# Altium footprint library PcbLib1.PcbLib: 18 footprints (part 1 of 2)
Each footprint in its own frame and in the unit in brackets; x right, y up, seen from the top. Pads: shape width x height; smd on the part's side, far side on the other; paste and mask are expansions set on the pad; w line width, h text height; cw(c..) or ccw(c..) is an arc to the next point about the centre after c.
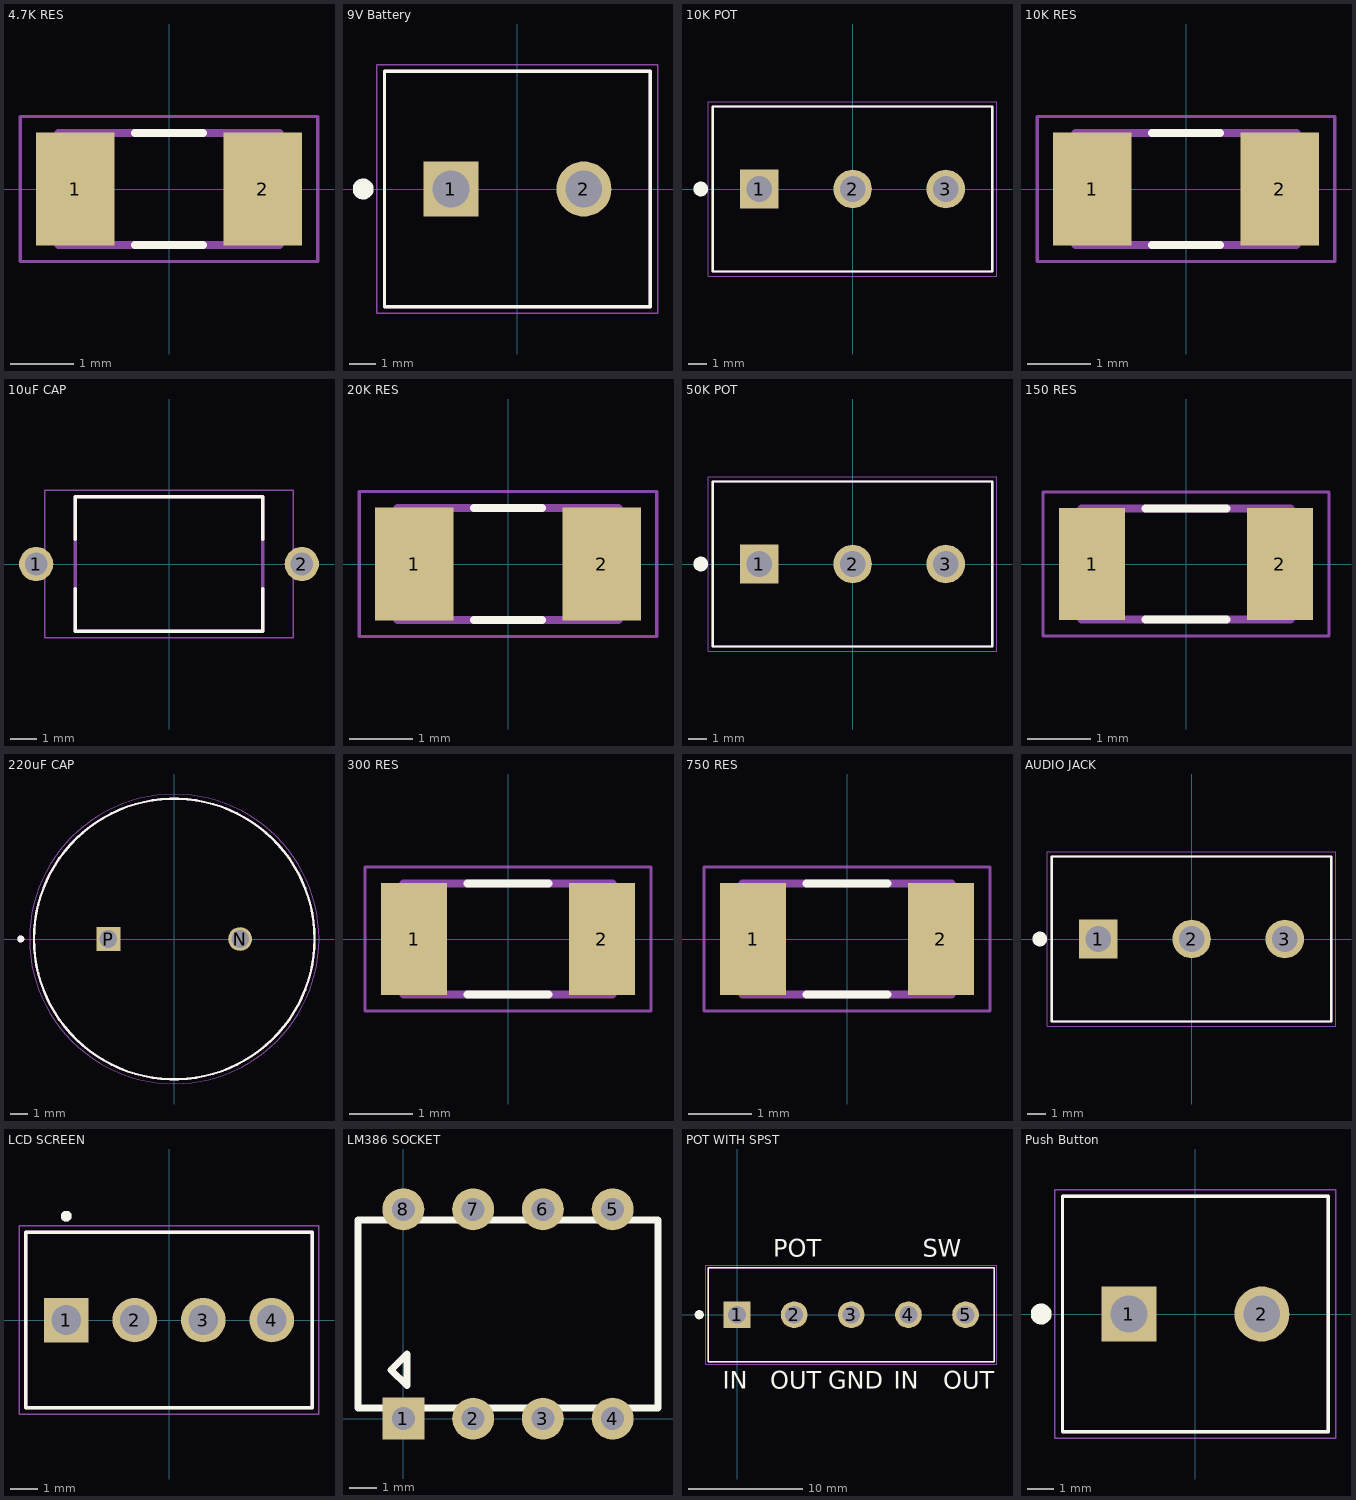
[diagram p0: the footprints below, top view; thin cyan lines are the x and y axes]

## 4.7K RES [mm]
pads (2):
  rect 1.23x1.77 smd: 1(-1.466,0) 2(1.466,0)
Top Overlay:
  lines w0.127: -0.53,-0.88 0.53,-0.88 ; -0.53,0.88 0.53,0.88
Mechanical 13:
  lines w0.127: -1.73,-0.88 1.73,-0.88 1.73,0.88 -1.73,0.88 -1.73,-0.88
Mechanical 15:
  lines w0.05: -2.331,-1.135 2.331,-1.135 2.331,1.135 -2.331,1.135 -2.331,-1.135
3D body "RMCF1206FT4K70.STEP": height 0.7, standoff 0, extent -1.6,-0.8 1.6,0.8

## 9V Battery [mm]
pads (2):
  rect 2.1x2.1 hole 1.4: 1(-2.54,0)
  round 2.1 hole 1.4: 2(2.54,0)
Top Overlay:
  circle w0.4: c-5.89,0 r0.2
  lines w0.127: -5.08,-4.5 5.08,-4.5 5.08,4.5 -5.08,4.5 -5.08,-4.5
Mechanical 13:
  circle w0.4: c-2.54,0 r0.2
  lines w0.127: -5.08,-4.5 5.08,-4.5 5.08,4.5 -5.08,4.5 -5.08,-4.5
Mechanical 15:
  lines w0.05: -5.37,-4.75 -5.37,4.75 5.37,4.75 5.37,-4.75 -5.37,-4.75
3D body "282841-2--3DModel-STEP-1.STEP": height 15.2, standoff -3.5, extent -5.334,-4.516 5.326,4.484

## 10K POT [mm]
pads (3):
  rect 2.1x2.1 hole 1.4: 1(-5.08,0)
  round 2.1 hole 1.4: 2(0,0) 3(5.08,0)
Top Overlay:
  circle w0.4: c-8.28,0 r0.2
  lines w0.127: -7.62,-4.5 7.62,-4.5 7.62,4.5 -7.62,4.5 -7.62,-4.5
Mechanical 13:
  lines w0.127: -7.62,-4.5 7.62,-4.5 7.62,4.5 -7.62,4.5 -7.62,-4.5
Mechanical 15:
  lines w0.05: -7.87,-4.75 -7.87,4.75 7.87,4.75 7.87,-4.75 -7.87,-4.75
3D body "282841-3--3DModel-STEP-1.STEP": height 15.2, standoff -3.5, extent -7.874,-4.572 7.866,4.428

## 10K RES [mm]
pads (2):
  rect 1.23x1.77 smd: 1(-1.466,0) 2(1.466,0)
Top Overlay:
  lines w0.127: -0.53,-0.88 0.53,-0.88 ; -0.53,0.88 0.53,0.88
Mechanical 13:
  lines w0.127: -1.73,-0.88 1.73,-0.88 1.73,0.88 -1.73,0.88 -1.73,-0.88
Mechanical 15:
  lines w0.05: -2.331,-1.135 2.331,-1.135 2.331,1.135 -2.331,1.135 -2.331,-1.135
3D body "step_temp.STEP": height 0.7, standoff 0, extent -1.6,-0.8 1.6,0.8

## 10uF CAP [mm]
pads (2):
  round 1.28 hole 0.85: 1(-4.953,0) 2(4.953,0)
Top Overlay:
  lines w0.127: -3.5,-0.93 -3.5,-2.5 3.5,-2.5 3.5,-0.93 ; -3.5,0.93 -3.5,2.5 3.5,2.5 3.5,0.93
Mechanical 13:
  lines w0.127: -3.5,-2.5 3.5,-2.5 3.5,2.5 -3.5,2.5 -3.5,-2.5
Mechanical 15:
  lines w0.05: -4.64,-2.75 4.64,-2.75 4.64,2.75 -4.64,2.75 -4.64,-2.75
3D body "DE2E3SA102MN3AY02F.STEP": height 10, standoff -25, extent -5.333,-2 5.333,2

## 20K RES [mm]
pads (2):
  rect 1.23x1.77 smd: 1(-1.466,0) 2(1.466,0)
Top Overlay:
  lines w0.127: -0.53,-0.88 0.53,-0.88 ; -0.53,0.88 0.53,0.88
Mechanical 13:
  lines w0.127: -1.73,-0.88 1.73,-0.88 1.73,0.88 -1.73,0.88 -1.73,-0.88
Mechanical 15:
  lines w0.05: -2.331,-1.135 2.331,-1.135 2.331,1.135 -2.331,1.135 -2.331,-1.135
3D body "RMCF1206FT10K0.STEP": height 0.7, standoff 0, extent -1.6,-0.8 1.6,0.8

## 50K POT [mm]
pads (3):
  rect 2.1x2.1 hole 1.4: 1(-5.08,0)
  round 2.1 hole 1.4: 2(0,0) 3(5.08,0)
Top Overlay:
  circle w0.4: c-8.28,0 r0.2
  lines w0.127: -7.62,-4.5 -7.62,4.5 7.62,4.5 7.62,-4.5 -7.62,-4.5
Mechanical 13:
  lines w0.127: -7.62,-4.5 -7.62,4.5 7.62,4.5 7.62,-4.5 -7.62,-4.5
Mechanical 15:
  lines w0.05: -7.87,-4.75 7.87,-4.75 7.87,4.75 -7.87,4.75 -7.87,-4.75
3D body "282841-3--3DModel-STEP-1.STEP": height 15.2, standoff -3.5, extent -7.874,-4.445 7.866,4.555

## 150 RES [mm]
pads (2):
  rect 1.05x1.77 smd: 1(-1.485,0) 2(1.485,0)
Top Overlay:
  lines w0.127: -0.64,-0.88 0.64,-0.88 ; -0.64,0.88 0.64,0.88
Mechanical 13:
  lines w0.127: -1.65,-0.88 -1.65,0.88 1.65,0.88 1.65,-0.88 -1.65,-0.88
Mechanical 15:
  lines w0.05: -2.26,-1.135 -2.26,1.135 2.26,1.135 2.26,-1.135 -2.26,-1.135
3D body "CRCW1206300RJNEA.STEP": height 0.6, standoff 0, extent -1.6,-0.8 1.6,0.8

## 220uF CAP [mm]
pads (2):
  round 1.35 hole 1: N(3.75,0)
  rect 1.35x1.35 hole 1: P(-3.75,0)
Top Overlay:
  circle w0.2: c-8.75,0 r0.1
  circle w0.127: c0,0 r8
Mechanical 13:
  circle w0.2: c-8.75,0 r0.1
  circle w0.127: c0,0 r8
Mechanical 15:
  circle w0.05: c0,0 r8.25
3D body "step_temp.STEP": height 27, standoff -20, extent -8,-8 8,8

## 300 RES [mm]
pads (2):
  rect 1.05x1.77 smd: 1(-1.485,0) 2(1.485,0)
Top Overlay:
  lines w0.127: -0.64,-0.88 0.64,-0.88 ; -0.64,0.88 0.64,0.88
Mechanical 13:
  lines w0.127: -1.65,-0.88 -1.65,0.88 1.65,0.88 1.65,-0.88 -1.65,-0.88
Mechanical 15:
  lines w0.05: -2.26,-1.135 -2.26,1.135 2.26,1.135 2.26,-1.135 -2.26,-1.135
3D body "CRCW1206300RJNEA.STEP": height 0.6, standoff 0, extent -1.6,-0.8 1.6,0.8

## 750 RES [mm]
pads (2):
  rect 1.05x1.77 smd: 1(-1.485,0) 2(1.485,0)
Top Overlay:
  lines w0.127: -0.64,-0.88 0.64,-0.88 ; -0.64,0.88 0.64,0.88
Mechanical 13:
  lines w0.127: -1.65,-0.88 1.65,-0.88 1.65,0.88 -1.65,0.88 -1.65,-0.88
Mechanical 15:
  lines w0.05: -2.26,-1.135 2.26,-1.135 2.26,1.135 -2.26,1.135 -2.26,-1.135
3D body "CRCW1206750RFKEA.STEP": height 0.6, standoff 0, extent -1.6,-0.8 1.6,0.8

## AUDIO JACK [mm]
pads (3):
  rect 2.1x2.1 hole 1.4: 1(-5.08,0)
  round 2.1 hole 1.4: 2(0,0) 3(5.08,0)
Top Overlay:
  circle w0.4: c-8.28,0 r0.2
  lines w0.127: -7.62,-4.5 -7.62,4.5 7.62,4.5 7.62,-4.5 -7.62,-4.5
Mechanical 13:
  lines w0.127: -7.62,-4.5 -7.62,4.5 7.62,4.5 7.62,-4.5 -7.62,-4.5
Mechanical 15:
  lines w0.05: -7.87,-4.75 7.87,-4.75 7.87,4.75 -7.87,4.75 -7.87,-4.75
3D body "282841-3--3DModel-STEP-1.STEP": height 15.2, standoff -3.5, extent -7.874,-4.445 7.866,4.555

## LCD SCREEN [mm]
pads (4):
  rect 1.65x1.65 hole 1.1: 1(-3.81,0)
  round 1.65 hole 1.1: 2(-1.27,0) 3(1.27,0) 4(3.81,0)
Top Overlay:
  circle w0.2: c-3.81,3.85 r0.1
  lines w0.127: -5.31,-3.25 -5.31,3.25 5.31,3.25 5.31,-3.25 -5.31,-3.25
Mechanical 13:
  circle w0.2: c-3.81,3.85 r0.1
  lines w0.127: -5.31,-3.25 -5.31,3.25 5.31,3.25 5.31,-3.25 -5.31,-3.25
Mechanical 15:
  lines w0.05: -5.56,-3.5 -5.56,3.5 5.56,3.5 5.56,-3.5 -5.56,-3.5
3D body "1546215-4--3DModel-STEP-1.STEP": height 10, standoff -3.4, extent -5.31,-3.25 5.31,3.25

## LM386 SOCKET [mil] "8 pin socket for LM386"
pads (8):
  rect 60x60 hole 33.07 mask+4: 1(0,0)
  round 60 hole 33.07 mask+4: 2(100,0) 3(200,0) 4(300,0) 5(300,300) 6(200,300) 7(100,300) 8(0,300)
Top Overlay:
  lines w10: -65,15 365,15 365,285 -65,285 -65,15 ; -17.5,70 5,92.5 5,47.5 -17.5,70
3D body "210-xx-308-41-001000.STEP": height 109.84, standoff 0, extent -48.82,-43.82 348.82,353.82

## POT WITH SPST [mm]
pads (5):
  rect 2.34x2.34 hole 1.56: 1(0,0)
  round 2.34 hole 1.56: 2(5,0) 3(10,0) 4(15,0) 5(20,0)
Top Overlay:
  circle w0.4: c-3.302,0 r0.2
  lines w0.127: -2.5,-4.1 -2.5,4.1 22.5,4.1 22.5,-4.1 -2.5,-4.1
  text "IN" at -1.27,-6.477 h1.52
  text "OUT" at 2.921,-6.477 h1.52
  text "GND" at 8.001,-6.477 h1.52
  text "IN" at 13.716,-6.477 h1.52
  text "OUT" at 18.034,-6.477 h1.52
  text "POT" at 3.175,5.08 h1.52
  text "SW" at 16.256,5.08 h1.52
Mechanical 13:
  lines w0.127: -2.5,-4.1 -2.5,4.1 22.5,4.1 22.5,-4.1 -2.5,-4.1
Mechanical 15:
  lines w0.05: -2.75,-4.35 -2.75,4.35 22.75,4.35 22.75,-4.35 -2.75,-4.35
3D body "282836-5--3DModel-STEP-1.STEP": height 5, standoff -8.5, extent -2.721,-4.136 22.879,4.064

## Push Button [mm]
pads (2):
  rect 2.1x2.1 hole 1.4: 1(-2.54,0)
  round 2.1 hole 1.4: 2(2.54,0)
Top Overlay:
  circle w0.4: c-5.89,0 r0.2
  lines w0.127: -5.08,-4.5 5.08,-4.5 5.08,4.5 -5.08,4.5 -5.08,-4.5
Mechanical 13:
  circle w0.4: c-2.54,0 r0.2
  lines w0.127: -5.08,-4.5 5.08,-4.5 5.08,4.5 -5.08,4.5 -5.08,-4.5
Mechanical 15:
  lines w0.05: -5.37,-4.75 -5.37,4.75 5.37,4.75 5.37,-4.75 -5.37,-4.75
3D body "282841-2--3DModel-STEP-1.STEP": height 15.2, standoff -3.5, extent -5.326,-4.428 5.334,4.572